# Altium footprint library SchottkyDiode_FM5819-W.PcbLib: 1 footprints
Each footprint in its own frame and in the unit in brackets; x right, y up, seen from the top. Pads: shape width x height; smd on the part's side, far side on the other; paste and mask are expansions set on the pad; w line width, h text height; cw(c..) or ccw(c..) is an arc to the next point about the centre after c.
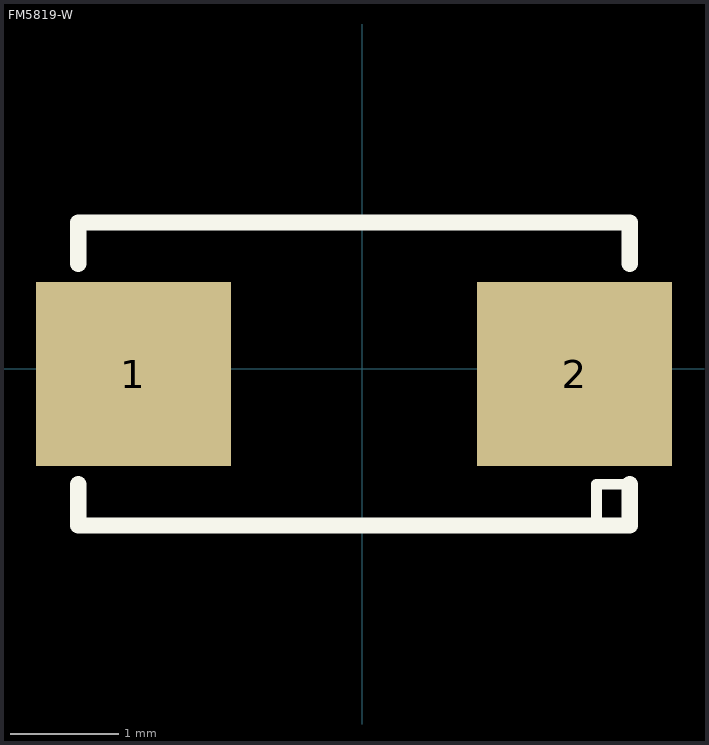
[diagram p0: the footprint, top view; thin cyan lines are the x and y axes]

## FM5819-W [mm] "Schottky Diodes & Rectifiers Vr/40V Io/1A T/R"
pads (2):
  rect 1.8x1.7 smd: 1(-2.109,-0.048) 2(1.955,-0.048)
Top Overlay:
  lines w0.1: 2.159,-1.445 2.159,-1.064 2.463,-1.064
  lines w0.15: -2.617,-1.064 -2.617,-1.445 2.463,-1.445 2.463,-1.064 ; -2.617,0.968 -2.617,1.349 2.463,1.349 2.463,0.968
3D body "User Library-Diode Molded Body.step": height 2.28, standoff -0.03, extent -2.5,-1.35 2.5,1.35